# EAGLE library part SOP24N (library SOP24N)
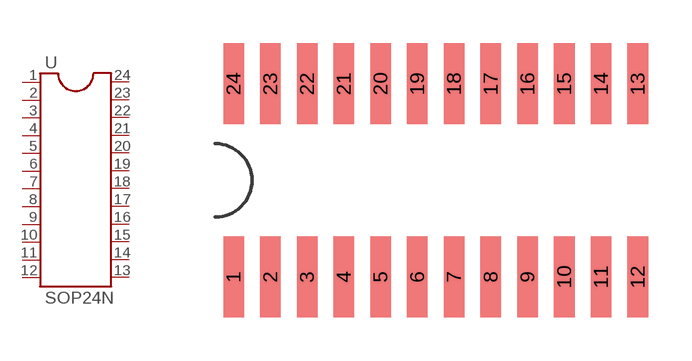
[diagram p0: symbol with the pads of SOP24N; footprint SOP24N]

Designator prefix -

## SOP24N  [SOP24N]
1  1  pas
2  2  pas
3  3  pas
4  4  pas
5  5  pas
6  6  pas
7  7  pas
8  8  pas
9  9  pas
10  10  pas
11  11  pas
12  12  pas
13  13  pas
14  14  pas
15  15  pas
16  16  pas
17  17  pas
18  18  pas
19  19  pas
20  20  pas
21  21  pas
22  22  pas
23  23  pas
24  24  pas

## Footprint SOP24N (pad centres in mm)
smd 0.711 x 2.794: 1 -5.715,-3.34; 2 -4.445,-3.34; 3 -3.175,-3.34; 4 -1.905,-3.34; 5 -0.635,-3.34; 6 0.635,-3.34; 7 1.905,-3.34; 8 3.175,-3.34; 9 4.445,-3.34; 10 5.715,-3.34; 11 6.985,-3.34; 12 8.255,-3.34; 13 8.255,3.34; 14 6.985,3.34; 15 5.715,3.34; 16 4.445,3.34; 17 3.175,3.34; 18 1.905,3.34; 19 0.635,3.34; 20 -0.635,3.34; 21 -1.905,3.34; 22 -3.175,3.34; 23 -4.445,3.34; 24 -5.715,3.34